# EAGLE library part FTSH-105-01-F-DV-007-K-P (library FTSH-105-01-F-DV-007-K-P)
10-pin, keyed, 1.27mm header for cortex SWD connections. Missing pin 7 is "key pin" space 1 -- VCC SWDIO/TMS -- 2 3 -- GND SWDCLK/TCK -- 4 5 -- GND SWO/TDO -- 6 7 -- KEY NC/TDI -- 8 9 -- GNDDETECT nRESET -- 10
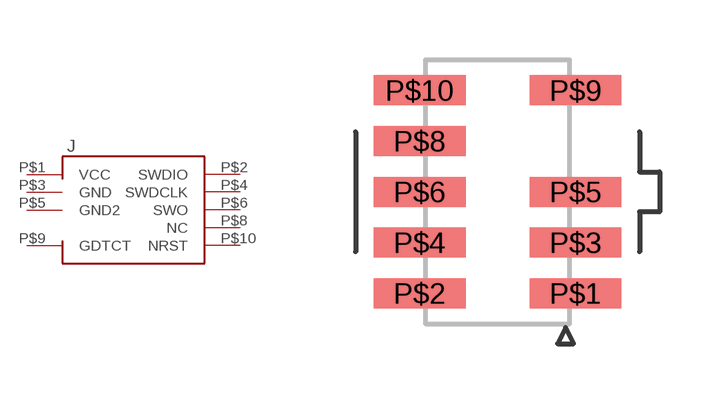
[diagram p0: symbol with the pads of FTSH-105-01-F-DV-007-K-P; footprint FTSH-105-01-F-DV-007-K-P]

Designator prefix J

## FTSH-105-01-F-DV-007-K-P (MFR: samtec; MFR_PN: FTSH-105-01-F-DV-007-K-P)  [FTSH-105-01-F-DV-007-K-P]
P$1  VCC
P$2  SWDIO
P$3  GND
P$4  SWDCLK
P$5  GND2
P$6  SWO
P$8  NC
P$9  GDTCT
P$10  NRST

## Footprint FTSH-105-01-F-DV-007-K-P (pad centres in mm)
smd 2.3 x 0.75: P$1 1.95,-2.54; P$2 -1.95,-2.54; P$3 1.95,-1.27; P$4 -1.95,-1.27; P$5 1.95,0; P$6 -1.95,0; P$8 -1.95,1.27; P$9 1.95,2.54; P$10 -1.95,2.54